# Altium footprint library 130020900#NIP_PD_电路板印制板.PcbLib: 105 footprints (part 2 of 7)
Each footprint in its own frame and in the unit in brackets; x right, y up, seen from the top. Pads: shape width x height; smd on the part's side, far side on the other; paste and mask are expansions set on the pad; w line width, h text height; cw(c..) or ccw(c..) is an arc to the next point about the centre after c.
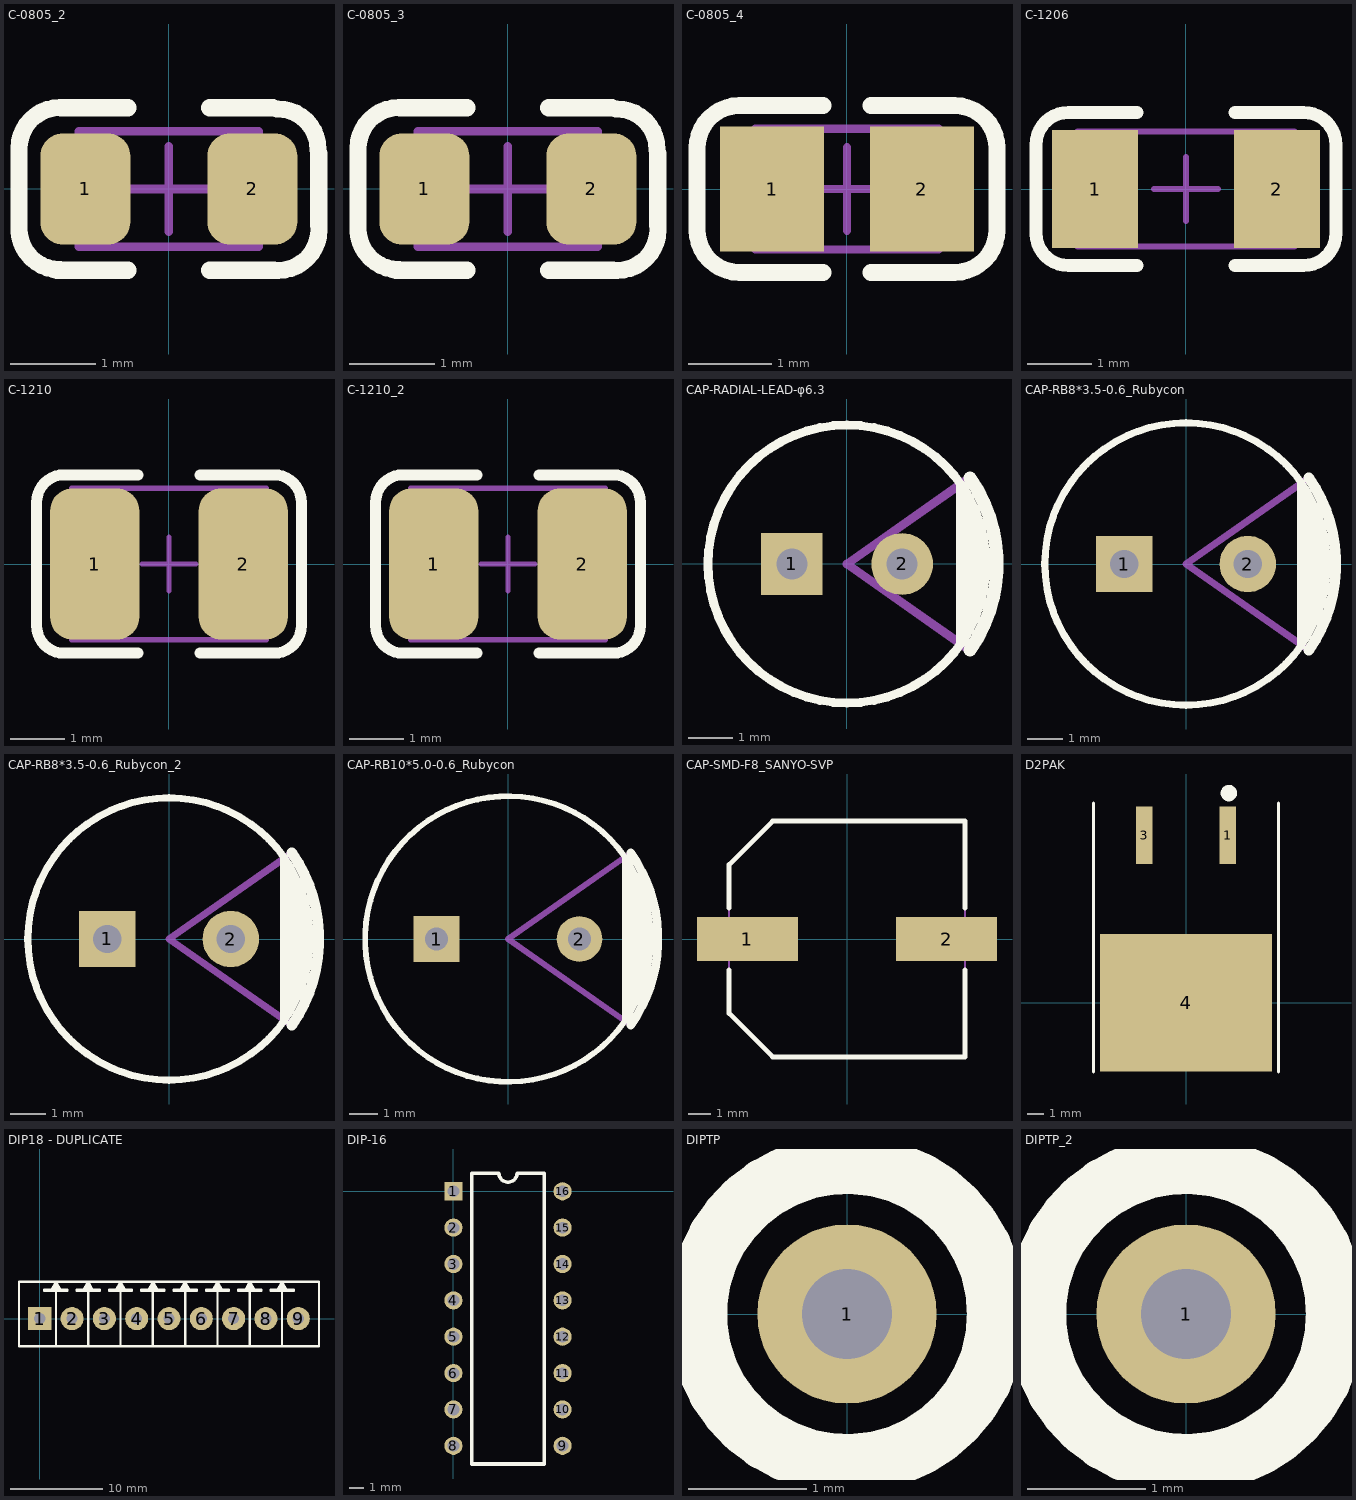
[diagram p1: the footprints below, top view; thin cyan lines are the x and y axes]

## C-0805_2 [mm]
pads (2):
  rrect50% 1.05x1.3 smd: 1(-0.975,0) 2(0.975,0)
Top Overlay:
  lines w0.2: -1.75,0.473 cw(c-1.273,0.473) -1.273,0.95 ; -1.749,-0.466 ccw(c-1.272,-0.466) -1.272,-0.943 ; 1.266,0.936 cw(c1.266,0.459) 1.743,0.459 ; 1.276,-0.95 ccw(c1.276,-0.473) 1.753,-0.473
  lines w0.203: -1.75,-0.507 -1.75,0.455 ; -1.307,-0.95 -0.477,-0.95 ; -1.255,0.95 -0.477,0.95 ; 0.477,-0.95 1.226,-0.95 ; 0.477,0.95 1.214,0.95 ; 1.75,-0.426 1.75,0.414
Mechanical 13:
  lines w0.1: -1.05,-0.675 -1.05,0.675 1.05,0.675 1.05,-0.675 -1.05,-0.675
Mechanical 15:
  lines w0.1: -0.5,0 0.5,0 ; 0,-0.5 0,0.5
3D body: height 0.5, standoff 0, extent -0.7,-0.675 0.7,0.675
3D body: height 0.5, standoff 0, extent -1.05,-0.675 -0.7,0.675
3D body: height 0.5, standoff 0, extent 0.7,-0.675 1.05,0.675

## C-0805_3 [mm]
pads (2):
  rrect50% 1.05x1.3 smd: 1(-0.975,0) 2(0.975,0)
Top Overlay:
  lines w0.2: -1.75,0.473 cw(c-1.273,0.473) -1.273,0.95 ; -1.749,-0.466 ccw(c-1.272,-0.466) -1.272,-0.943 ; 1.266,0.936 cw(c1.266,0.459) 1.743,0.459 ; 1.276,-0.95 ccw(c1.276,-0.473) 1.753,-0.473
  lines w0.203: -1.75,-0.507 -1.75,0.455 ; -1.307,-0.95 -0.477,-0.95 ; -1.255,0.95 -0.477,0.95 ; 0.477,-0.95 1.226,-0.95 ; 0.477,0.95 1.214,0.95 ; 1.75,-0.426 1.75,0.414
Mechanical 13:
  lines w0.1: -1.05,-0.675 -1.05,0.675 1.05,0.675 1.05,-0.675 -1.05,-0.675
Mechanical 15:
  lines w0.1: -0.5,0 0.5,0 ; 0,-0.5 0,0.5
3D body: height 0.5, standoff 0, extent -0.7,-0.675 0.7,0.675
3D body: height 0.5, standoff 0, extent -1.05,-0.675 -0.7,0.675
3D body: height 0.5, standoff 0, extent 0.7,-0.675 1.05,0.675

## C-0805_4 [mm]
pads (2):
  rect 1.25x1.5 smd: 1(-0.9,0) 2(0.9,0)
Top Overlay:
  lines w0.203: -0.285,-1 -1.292,-1 cw(c-1.292,-0.492) -1.8,-0.492 -1.8,0.492 cw(c-1.292,0.492) -1.292,1 -0.285,1 ; 0.285,-1 1.292,-1 ccw(c1.292,-0.492) 1.8,-0.492 1.8,0.492 ccw(c1.292,0.492) 1.292,1 0.285,1
Mechanical 13:
  lines w0.1: -1.1,-0.725 1.1,-0.725 1.1,0.725 -1.1,0.725 -1.1,-0.725
Mechanical 15:
  lines w0.1: -0.5,0 0.5,0 ; 0,-0.5 0,0.5
3D body: height 1.25, standoff 0, extent 0.65,-0.725 1.1,0.725
3D body: height 1.25, standoff 0, extent -1.1,-0.725 -0.65,0.725
3D body: height 1.25, standoff 0, extent -0.65,-0.725 0.65,0.725

## C-1206 [mm] "Chip Capacitor, 2-Leads, Body 3.20x1.60mm, IPC Medium Density"
height 1.25
pads (2):
  rect 1.35x1.85 smd: 1(-1.425,0) 2(1.425,0)
Top Overlay:
  lines w0.203: -2.35,-0.725 -2.35,0.692 cw(c-1.842,0.692) -1.842,1.2 -0.767,1.2 ; -2.35,-0.692 ccw(c-1.842,-0.692) -1.842,-1.2 -0.767,-1.2 ; 0.767,-1.2 1.842,-1.2 ccw(c1.842,-0.692) 2.35,-0.692 2.35,0.692 ccw(c1.842,0.692) 1.842,1.2 0.767,1.2
Mechanical 13:
  lines w0.1: -1.7,-0.9 1.7,-0.9 1.7,0.9 -1.7,0.9 -1.7,-0.9
Mechanical 15:
  lines w0.1: -0.5,0 0.5,0 ; 0,-0.5 0,0.5
3D body: height 1.25, standoff 0, extent 1.2,-0.9 1.7,0.9
3D body: height 1.25, standoff 0, extent -1.7,-0.9 -1.2,0.9
3D body: height 1.25, standoff 0, extent -1.2,-0.9 1.2,0.9

## C-1210 [mm] "Chip Capacitor, 2-Leads, Body 3.20x2.50mm, IPC Medium Density"
height 2
pads (2):
  rrect50% 1.65x2.8 smd: 1(-1.375,0) 2(1.375,0)
Top Overlay:
  lines w0.203: -0.572,-1.65 -1.942,-1.65 cw(c-1.942,-1.142) -2.45,-1.142 -2.45,1.142 cw(c-1.942,1.142) -1.942,1.65 -0.572,1.65 ; 0.572,-1.65 1.942,-1.65 ccw(c1.942,-1.142) 2.45,-1.142 2.45,1.142 ccw(c1.942,1.142) 1.942,1.65 0.572,1.65
Mechanical 13:
  lines w0.1: -1.8,-1.4 1.8,-1.4 1.8,1.4 -1.8,1.4 -1.8,-1.4
Mechanical 15:
  lines w0.1: -0.5,0 0.5,0 ; 0,-0.5 0,0.5
3D body: height 2, standoff 0, extent 1.2,-1.4 1.8,1.4
3D body: height 2, standoff 0, extent -1.8,-1.4 -1.2,1.4
3D body: height 2, standoff 0, extent -1.2,-1.4 1.2,1.4

## C-1210_2 [mm]
pads (2):
  rrect50% 1.65x2.8 smd: 1(-1.375,0) 2(1.375,0)
Top Overlay:
  lines w0.203: -0.572,-1.65 -1.942,-1.65 cw(c-1.942,-1.142) -2.45,-1.142 -2.45,1.142 cw(c-1.942,1.142) -1.942,1.65 -0.572,1.65 ; 0.572,-1.65 1.942,-1.65 ccw(c1.942,-1.142) 2.45,-1.142 2.45,1.142 ccw(c1.942,1.142) 1.942,1.65 0.572,1.65
Mechanical 13:
  lines w0.1: -1.8,-1.4 1.8,-1.4 1.8,1.4 -1.8,1.4 -1.8,-1.4
Mechanical 15:
  lines w0.1: -0.5,0 0.5,0 ; 0,-0.5 0,0.5
3D body: height 2, standoff 0, extent 1.2,-1.4 1.8,1.4
3D body: height 2, standoff 0, extent -1.8,-1.4 -1.2,1.4
3D body: height 2, standoff 0, extent -1.2,-1.4 1.2,1.4

## CAP-RADIAL-LEAD-φ6.3 [mm] "Rubycon,YXF SERIES ELECTROLYTIC CAPACITORS  ,D-F-d"
pads (2):
  rect 1.4x1.4 hole 0.7: 1(-1.25,0)
  round 1.4 hole 0.7: 2(1.25,0)
Top Overlay:
  circle w0.203: c0,0 r3.15
  region: 2.576,1.803 3.124,0.584 3.124,-0.787 2.576,-1.786
  lines w0.203: 2.576,-1.786 2.576,1.803
  lines w0.3: 2.785,-1.95 ccw(c0,0) 2.785,1.95
Mechanical 13:
  text "+" at -1.549,0.864 h1.02
Mechanical 15:
  lines w0.203: 2.785,-1.95 0,0 2.785,1.95

## CAP-RB8*3.5-0.6_Rubycon [mm] "Rubycon,YXF SERIES ELECTROLYTIC CAPACITORS  ,D-F-d"
pads (2):
  rect 1.6x1.6 hole 0.8: 1(-1.75,0)
  round 1.6 hole 0.8: 2(1.75,0)
Top Overlay:
  circle w0.203: c0,0 r4
  region: 3.251,2.277 3.962,0.864 3.962,-0.94 3.251,-2.337
  lines w0.203: 3.251,-2.337 3.251,2.277
  lines w0.3: 3.481,-2.438 ccw(c0,0) 3.481,2.438
Mechanical 13:
  text "+" at -2.007,0.94 h1.02
Mechanical 15:
  lines w0.203: 3.481,-2.438 0,0 3.481,2.438

## CAP-RB8*3.5-0.6_Rubycon_2 [mm]
pads (2):
  rect 1.6x1.6 hole 0.8: 1(-1.75,0)
  round 1.6 hole 0.8: 2(1.75,0)
Top Overlay:
  circle w0.203: c0,0 r4
  region: 3.251,2.277 3.962,0.864 3.962,-0.94 3.251,-2.337
  lines w0.203: 3.251,-2.337 3.251,2.277
  lines w0.3: 3.481,-2.438 ccw(c0,0) 3.481,2.438
Mechanical 13:
  text "+" at -2.007,0.94 h1.02
Mechanical 15:
  lines w0.203: 3.481,-2.438 0,0 3.481,2.438

## CAP-RB10*5.0-0.6_Rubycon [mm] "Rubycon,YXF SERIES ELECTROLYTIC CAPACITORS  ,D-F-d"
pads (2):
  rect 1.6x1.6 hole 0.8: 1(-2.5,0)
  round 1.6 hole 0.8: 2(2.5,0)
Top Overlay:
  circle w0.203: c0,0 r5
  region: 4.099,2.87 4.978,0.965 4.978,-1.016 4.099,-2.854
  lines w0.203: 4.099,-2.854 4.099,2.87
  lines w0.3: 4.301,-3.011 ccw(c0,0) 4.301,3.011
Mechanical 13:
  text "+" at -2.794,1.118 h1.02
Mechanical 15:
  lines w0.203: 4.301,-3.011 0,0 4.301,3.011

## CAP-SMD-F8_SANYO-SVP [mm] "SANYO,SVP SERIES ELECTROLYTIC CAPACITORS"
height 2.62
pads (2):
  rect 4.4x1.9 smd: 1(-4.35,0) 2(4.35,0)
Top Overlay:
  lines w0.203: -5.15,-1.35 -5.15,-3.25 -3.25,-5.15 5.15,-5.15 5.15,-1.35 ; -5.15,1.35 -5.15,3.25 -3.25,5.15 5.15,5.15 5.15,1.35
Mechanical 13:
  lines w0.1: -5.15,-3.25 -5.15,3.25 -3.25,5.15 5.15,5.15 5.15,-5.15 -3.25,-5.15 -5.15,-3.25
  text "+" at -4.597,1.194 h1.02

## D2PAK [mm]
height 1.6
pads (3):
  rect 1.016x3.504 smd: 1(2.54,10.213) 3(-2.54,10.213)
  rect 10.49x8.38 smd: 4(0,0)
Top Overlay:
  circle w0.5: c2.612,12.776 r0.25
  lines w0.2: -5.639,-4.187 -5.639,12.176 ; 5.639,-4.187 5.639,12.176

## DIP18 - DUPLICATE [mm]
pads (9):
  rect 2.5x2.5 hole 1.2: 1(0,0)
  round 2.5 hole 1.2: 2(3.5,0) 3(7,0) 4(10.5,0) 5(14,0) 6(17.5,0) 7(21,0) 8(24.5,0) 9(28,0)
Top Overlay:
  lines w0.254: 1.27,3.127 1.75,4 ; 1.524,3.127 1.778,4 ; 1.75,-3 1.75,4 ; 1.75,3.048 1.75,4 ; 2.032,3 1.75,4 ; 2.23,3.127 1.75,4 ; 4.77,3.127 5.25,4 ; 5.024,3.127 5.278,4 ; 5.25,-3 5.25,4 ; 5.25,3.048 5.25,4 ; 5.532,3 5.25,4 ; 5.73,3.127 5.25,4 ; 8.27,3.127 8.75,4 ; 8.524,3.127 8.778,4 ; 8.75,-3 8.75,4 ; 8.75,3.048 8.75,4 ; 9.032,3 8.75,4 ; 9.23,3.127 8.75,4 ; 11.77,3.127 12.25,4 ; 12.024,3.127 12.278,4 ; 12.25,-3 12.25,4 ; 12.25,3.048 12.25,4 ; 12.532,3 12.25,4 ; 12.73,3.127 12.25,4 ; 15.27,3.127 15.75,4 ; 15.524,3.127 15.778,4 ; 15.75,-3 15.75,4 ; 15.75,3.048 15.75,4 ; 16.032,3 15.75,4 ; 16.23,3.127 15.75,4 ; 18.77,3.127 19.25,4 ; 19.024,3.127 19.278,4 ; 19.25,-3 19.25,4 ; 19.25,3.048 19.25,4 ; 19.532,3 19.25,4 ; 19.73,3.127 19.25,4 ; 22.27,3.127 22.75,4 ; 22.524,3.127 22.778,4 ; 22.75,-3 22.75,4 ; 22.75,3.048 22.75,4 ; 23.032,3 22.75,4 ; 23.23,3.127 22.75,4 ; 25.77,3.127 26.25,4 ; 26.024,3.127 26.278,4 ; 26.25,-3 26.25,4 ; 26.25,3.048 26.25,4 ; 26.532,3 26.25,4 ; 26.73,3.127 26.25,4 ; -2.25,-3 30.25,-3 30.25,4 -2.25,4 -2.25,-3 ; 0.5,3 3,3 3,3.127 0.5,3.127 0.5,3 ; 4,3 6.5,3 6.5,3.127 4,3.127 4,3 ; 7.5,3 10,3 10,3.127 7.5,3.127 7.5,3 ; 11,3 13.5,3 13.5,3.127 11,3.127 11,3 ; 14.5,3 17,3 17,3.127 14.5,3.127 14.5,3 ; 18,3 18,3.127 20.5,3.127 20.5,3 18,3 ; 21.5,3 21.5,3.127 24,3.127 24,3 21.5,3 ; 25,3 27.5,3 27.5,3.127 25,3.127 25,3

## DIP-16 [mil]
height 62.99
pads (16):
  rect 50x50 hole 32: 1(0,0)
  round 50 hole 32: 2(0,-100) 3(0,-200) 4(0,-300) 5(0,-400) 6(0,-500) 7(0,-600) 8(0,-700) 9(300,-700) 10(300,-600) 11(300,-500) 12(300,-400) 13(300,-300) 14(300,-200) 15(300,-100) 16(300,0)
Top Overlay:
  lines w10: 50,-750 50,50 125,50 ccw(c150,50) 175,50 250,50 250,-750 50,-750

## DIPTP [mil]
pads (1):
  round 60 hole 30: 1(0,0)
Top Overlay:
  circle w20: c0,0 r50.2

## DIPTP_2 [mil]
pads (1):
  round 60 hole 30: 1(0,0)
Top Overlay:
  circle w20: c0,0 r50.2